# Altium integrated library TI Power Management Special Function.IntLib: 97 symbols (part 7 of 7)
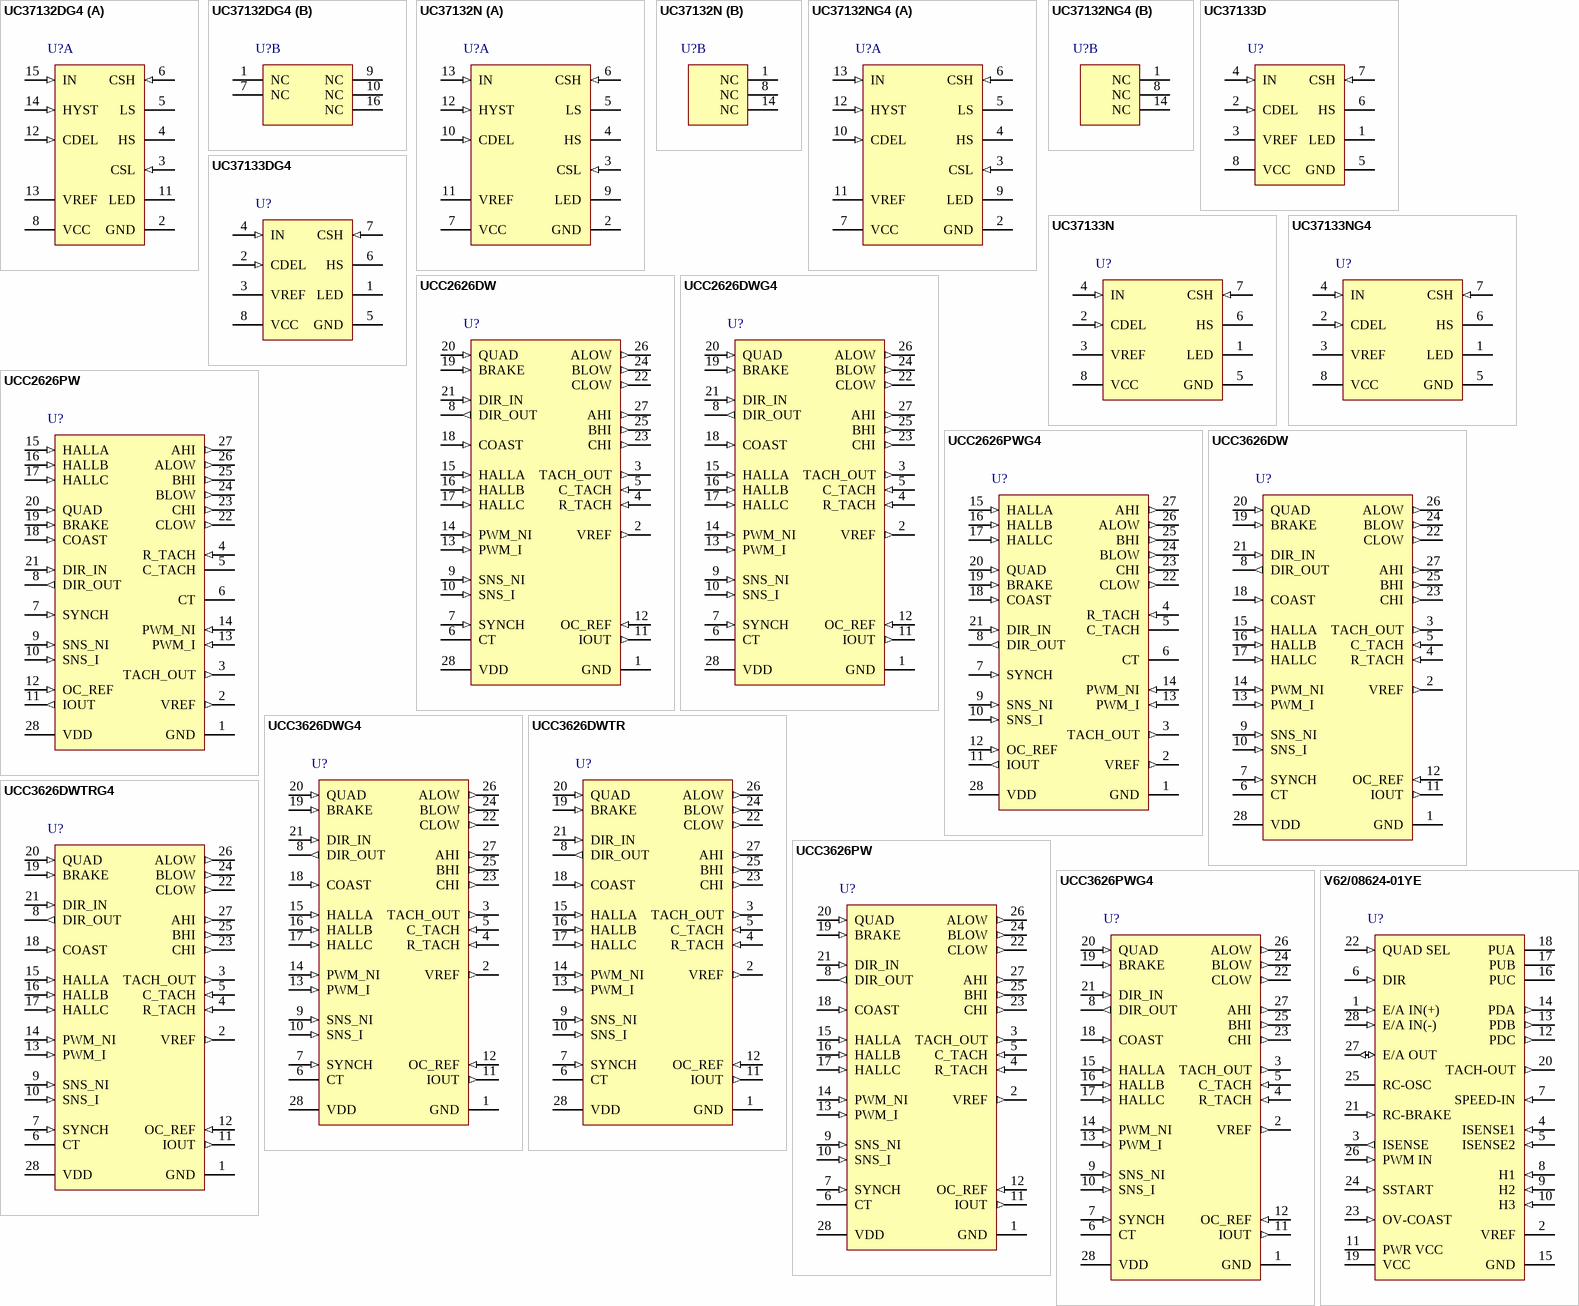
[diagram p9: symbols UC37132DG4 to V62/08624-01YE]

## UCC3626DWTR
designator U?
Brushless DC Motor Controller, 14.5 V Operating Supply, 0 to 70 degC, 28-pin SOIC (DW), Green (RoHS & no Sb/Br); Manufacturer: Texas Instruments; PartNumber: UCC3626DWTR; Brushless DC Motor Control: TRUE; Operating Supply Current(mA): 3; Operating Supply(Max)(V): 14.5; Operating Supply(Min)(V): 11; Peak Output Current(A): 0.1; SubFamily: Motion/Motor Control; DatasheetVersion: SLUS318B; PackageVersion: revG, Jan-2011; PackageReference: DW28; PackageDescription: 28-Pin Plastic Small Outline Integrated Circuit, 17.9 x 7.5 mm, Pitch 1.27 mm Pitch; Supplier 1: Digi-Key; Supplier Part Number 1: UCC3626DWTR-ND; Supplier 2: Newark; Supplier Part Number 2: 77C2308; Supplier 3: Mouser; Supplier Part Number 3: 595-UCC3626DWTR; Current-Limited: TRUE; Diff Curr Sense Amp: TRUE; Eco-Plan: Green (RoHS & no Sb/Br); Switching Control: TRUE; Tachometer: TRUE; Mounting Technology: Surface Mount; Code_JEDEC: MS-013-AE; ComponentLink1Description: Datasheet; ComponentLink1URL: http://www.ti.com/general/docs/lit/getliterature.tsp?genericPartNumber=UCC3626&fileType=pdf
footprint DW28_N (SOIC, 28-Leads, Body 17.9x7.5mm, Pitch 1.27mm, IPC Medium Density)
footprint DW28_L (SOIC, 28-Leads, Body 17.9x7.5mm, Pitch 1.27mm, IPC High Density)
footprint DW28_M (SOIC, 28-Leads, Body 17.9x7.5mm, Pitch 1.27mm, IPC Low Density)
pins: 1 GND (power) "GND is the reference ground for all functions of the part. Bypass and timing capacitors should be terminated as close as possible to this point.", 2 VREF (out) "VREF is a 5-V, 2% trimmed reference output with 5 mA of maximum available output current. This pin should be bypassed to ground with a ceramic capacitor with a value of at least 0.1 µF.", 3 TACH_OUT (out) "TACH_OUT is the output of a monostable triggered by a change in the commutation state, thus providing a variable duty cycle, frequency output. The on time of the monostable is set by the timing capacitor connected to C_TACH. (See Datasheet)", 4 R_TACH (in) "A resistor connected between R_TACH and ground programs the current for both the oscillator and tachometer.", 5 C_TACH (in) "A timing capacitor is connected between this pin and ground to set the width of the TACH_OUT pulse. The capacitor is charged with a current set by the resistor on pin R_TACH .", 6 CT "This pin is used in conjunction with the R_TACH pin to set the frequency of the oscillator. A timing capacitor is normally connected between this point and ground and is alternately charged and discharged between 2.5 V and 7.(See Datasheet)", 7 SYNCH (in) "The SYNCH input is used to synchronize the PWM oscillator with an external digital clock. When using the SYNCH feature, a resistor equal to R_TACH must be placed in parallel with CT. When not using the SYNCH feature, SYNCH (See Datasheet)", 8 DIR_OUT (out) "DIR_OUT represents the actual direction of the rotor as decoded from the HALLA, HALLB, and HALLC inputs. For any valid combination of HALLA, HALLB, and HALLC inputs there are two valid transitions; one of which translates to (See Datasheet)", 9 SNS_NI (in) "These inputs are the noninverting and inverting inputs to the current sense amplifier, respectively. The integrated amplifier is configured for a gain of five. An absolute value function is also incorporated into the output (See Datasheet)", 10 SNS_I (in) "These inputs are the noninverting and inverting inputs to the current sense amplifier, respectively. The integrated amplifier is configured for a gain of five. An absolute value function is also incorporated into the output (See Datasheet)", 11 IOUT (out) "IOUT represents the output of the current sense and absolute value amplifiers. The output signal appearing is a representation of the following expression: This output can be used to close a current control loop as well as (See Datasheet)", 12 OC_REF (in) "OC_REF is an analog input which sets the trip voltage of the overcurrent comparator. The sense input of the comparator is internally connected to the output of the current sense amplifier and absolute value circuit.", 13 PWM_I (in) "PWM_I is the inverting input to the PWM comparator.", 14 PWM_NI (in) "PWM_NI is the noninverting input to the PWM comparator.", 15 HALLA (in) "These three inputs are designed to accept rotor position information positioned 120degrees apart. For specific decode information reference Table I. These inputs should be externally pulled up to VREF or another appropriate (See Datasheet)", 16 HALLB (in) "These three inputs are designed to accept rotor position information positioned 120degrees apart. For specific decode information reference Table I. These inputs should be externally pulled up to VREF or another appropriate (See Datasheet)", 17 HALLC (in) "These three inputs are designed to accept rotor position information positioned 120degrees apart. For specific decode information reference Table I. These inputs should be externally pulled up to VREF or another appropriate (See Datasheet)", 18 COAST (in) "The COAST input consists of a hysteretic comparator which disables the outputs. The input is useful in implementing an overvoltage bus clamp in four-quadrant applications. The outputs are disabled when the input is above 1.(See Datasheet)", 19 BRAKE (in) "BRAKE is a digital input which causes the device to enter brake mode. In brake mode all three high-side outputs (AHI, BHI & CHI) are turned off, while all three lowside outputs (ALOW ,BLOW, CLOW) are turned on. During brake (See Datasheet)", 20 QUAD (in) "The QUAD input selects between two-quadrant operation (QUAD = 0) and four-quadrant operation (QUAD = 1) . When in two-quadrant mode, only the low-side devices are effected by the output of the PWM comparator. In (See Datasheet)", 21 DIR_IN (in) "DIR_IN is a digital input which determines the order in which the HALLA, HALLB, and HALLC inputs are decoded. For specific decode information reference Table I.", 22 CLOW (out) "Digital outputs used to control the low-side switches in a three-phase inverter. For specific decoding information reference Table I.", 23 CHI (out) "Digital outputs used to control the high-side switches in a three-phase inverter. For specific decoding information reference Table I.", 24 BLOW (out) "Digital outputs used to control the low-side switches in a three-phase inverter. For specific decoding information reference Table I.", 25 BHI (out) "Digital outputs used to control the high-side switches in a three-phase inverter. For specific decoding information reference Table I.", 26 ALOW (out) "Digital outputs used to control the low-side switches in a three-phase inverter. For specific decoding information reference Table I.", 27 AHI (out) "Digital outputs used to control the high-side switches in a three-phase inverter. For specific decoding information reference Table I.", 28 VDD (power) "VDD is the input supply connection for this device. Undervoltage lockout keeps the outputs off for inputs below 10.5 V. The input should be bypassed with a 0.1-µF ceramic capacitor, minimum."

## UCC3626DWTRG4
designator U?
Brushless DC Motor Controller, 14.5 V Operating Supply, 0 to 70 degC, 28-pin SOIC (DW), Green (RoHS & no Sb/Br); Manufacturer: Texas Instruments; PartNumber: UCC3626DWTRG4; Brushless DC Motor Control: TRUE; Operating Supply Current(mA): 3; Operating Supply(Max)(V): 14.5; Operating Supply(Min)(V): 11; Peak Output Current(A): 0.1; SubFamily: Motion/Motor Control; DatasheetVersion: SLUS318B; PackageVersion: revG, Jan-2011; PackageReference: DW28; PackageDescription: 28-Pin Plastic Small Outline Integrated Circuit, 17.9 x 7.5 mm, Pitch 1.27 mm Pitch; Supplier 1: Digi-Key; Supplier Part Number 1: UCC3626DWTRG4-ND; Supplier 2: Newark; Supplier Part Number 2: 54K2102; Supplier 3: Mouser; Supplier Part Number 3: 595-UCC3626DWTRG4; Current-Limited: TRUE; Diff Curr Sense Amp: TRUE; Eco-Plan: Green (RoHS & no Sb/Br); Switching Control: TRUE; Tachometer: TRUE; Mounting Technology: Surface Mount; Code_JEDEC: MS-013-AE; ComponentLink1Description: Datasheet; ComponentLink1URL: http://www.ti.com/general/docs/lit/getliterature.tsp?genericPartNumber=UCC3626&fileType=pdf
footprint DW28_N (SOIC, 28-Leads, Body 17.9x7.5mm, Pitch 1.27mm, IPC Medium Density)
footprint DW28_L (SOIC, 28-Leads, Body 17.9x7.5mm, Pitch 1.27mm, IPC High Density)
footprint DW28_M (SOIC, 28-Leads, Body 17.9x7.5mm, Pitch 1.27mm, IPC Low Density)
pins: 1 GND (power) "GND is the reference ground for all functions of the part. Bypass and timing capacitors should be terminated as close as possible to this point.", 2 VREF (out) "VREF is a 5-V, 2% trimmed reference output with 5 mA of maximum available output current. This pin should be bypassed to ground with a ceramic capacitor with a value of at least 0.1 µF.", 3 TACH_OUT (out) "TACH_OUT is the output of a monostable triggered by a change in the commutation state, thus providing a variable duty cycle, frequency output. The on time of the monostable is set by the timing capacitor connected to C_TACH. (See Datasheet)", 4 R_TACH (in) "A resistor connected between R_TACH and ground programs the current for both the oscillator and tachometer.", 5 C_TACH (in) "A timing capacitor is connected between this pin and ground to set the width of the TACH_OUT pulse. The capacitor is charged with a current set by the resistor on pin R_TACH .", 6 CT "This pin is used in conjunction with the R_TACH pin to set the frequency of the oscillator. A timing capacitor is normally connected between this point and ground and is alternately charged and discharged between 2.5 V and 7.(See Datasheet)", 7 SYNCH (in) "The SYNCH input is used to synchronize the PWM oscillator with an external digital clock. When using the SYNCH feature, a resistor equal to R_TACH must be placed in parallel with CT. When not using the SYNCH feature, SYNCH (See Datasheet)", 8 DIR_OUT (out) "DIR_OUT represents the actual direction of the rotor as decoded from the HALLA, HALLB, and HALLC inputs. For any valid combination of HALLA, HALLB, and HALLC inputs there are two valid transitions; one of which translates to (See Datasheet)", 9 SNS_NI (in) "These inputs are the noninverting and inverting inputs to the current sense amplifier, respectively. The integrated amplifier is configured for a gain of five. An absolute value function is also incorporated into the output (See Datasheet)", 10 SNS_I (in) "These inputs are the noninverting and inverting inputs to the current sense amplifier, respectively. The integrated amplifier is configured for a gain of five. An absolute value function is also incorporated into the output (See Datasheet)", 11 IOUT (out) "IOUT represents the output of the current sense and absolute value amplifiers. The output signal appearing is a representation of the following expression: This output can be used to close a current control loop as well as (See Datasheet)", 12 OC_REF (in) "OC_REF is an analog input which sets the trip voltage of the overcurrent comparator. The sense input of the comparator is internally connected to the output of the current sense amplifier and absolute value circuit.", 13 PWM_I (in) "PWM_I is the inverting input to the PWM comparator.", 14 PWM_NI (in) "PWM_NI is the noninverting input to the PWM comparator.", 15 HALLA (in) "These three inputs are designed to accept rotor position information positioned 120degrees apart. For specific decode information reference Table I. These inputs should be externally pulled up to VREF or another appropriate (See Datasheet)", 16 HALLB (in) "These three inputs are designed to accept rotor position information positioned 120degrees apart. For specific decode information reference Table I. These inputs should be externally pulled up to VREF or another appropriate (See Datasheet)", 17 HALLC (in) "These three inputs are designed to accept rotor position information positioned 120degrees apart. For specific decode information reference Table I. These inputs should be externally pulled up to VREF or another appropriate (See Datasheet)", 18 COAST (in) "The COAST input consists of a hysteretic comparator which disables the outputs. The input is useful in implementing an overvoltage bus clamp in four-quadrant applications. The outputs are disabled when the input is above 1.(See Datasheet)", 19 BRAKE (in) "BRAKE is a digital input which causes the device to enter brake mode. In brake mode all three high-side outputs (AHI, BHI & CHI) are turned off, while all three lowside outputs (ALOW ,BLOW, CLOW) are turned on. During brake (See Datasheet)", 20 QUAD (in) "The QUAD input selects between two-quadrant operation (QUAD = 0) and four-quadrant operation (QUAD = 1) . When in two-quadrant mode, only the low-side devices are effected by the output of the PWM comparator. In (See Datasheet)", 21 DIR_IN (in) "DIR_IN is a digital input which determines the order in which the HALLA, HALLB, and HALLC inputs are decoded. For specific decode information reference Table I.", 22 CLOW (out) "Digital outputs used to control the low-side switches in a three-phase inverter. For specific decoding information reference Table I.", 23 CHI (out) "Digital outputs used to control the high-side switches in a three-phase inverter. For specific decoding information reference Table I.", 24 BLOW (out) "Digital outputs used to control the low-side switches in a three-phase inverter. For specific decoding information reference Table I.", 25 BHI (out) "Digital outputs used to control the high-side switches in a three-phase inverter. For specific decoding information reference Table I.", 26 ALOW (out) "Digital outputs used to control the low-side switches in a three-phase inverter. For specific decoding information reference Table I.", 27 AHI (out) "Digital outputs used to control the high-side switches in a three-phase inverter. For specific decoding information reference Table I.", 28 VDD (power) "VDD is the input supply connection for this device. Undervoltage lockout keeps the outputs off for inputs below 10.5 V. The input should be bypassed with a 0.1-µF ceramic capacitor, minimum."

## UCC3626PW
designator U?
Brushless DC Motor Controller, 14.5 V Operating Supply, 0 to 70 degC, 28-pin TSSOP (PW), Green (RoHS & no Sb/Br); Manufacturer: Texas Instruments; PartNumber: UCC3626PW; Brushless DC Motor Control: TRUE; Operating Supply Current(mA): 3; Operating Supply(Max)(V): 14.5; Operating Supply(Min)(V): 11; Peak Output Current(A): 0.1; SubFamily: Motion/Motor Control; DatasheetVersion: SLUS318B; PackageVersion: revG, Feb-2011; PackageReference: PW28; PackageDescription: 28-Pin Plastic Thin Small Outline Package 9.7 x 4.4 mm Body ,0.65 mm Pitch; Supplier 1: Digi-Key; Supplier Part Number 1: 296-11453-5-ND; Supplier 2: Newark; Supplier Part Number 2: 77C2310; Supplier 3: Mouser; Supplier Part Number 3: 595-UCC3626PW; Current-Limited: TRUE; Diff Curr Sense Amp: TRUE; Eco-Plan: Green (RoHS & no Sb/Br); Switching Control: TRUE; Tachometer: TRUE; Mounting Technology: Surface Mount; Code_JEDEC: MO-153; ComponentLink1Description: Datasheet; ComponentLink1URL: http://www.ti.com/general/docs/lit/getliterature.tsp?genericPartNumber=UCC3626&fileType=pdf
footprint PW28_N (TSOP, 28-Leads, Body 9.7x4.4mm, Pitch 0.65mm, IPC Medium Density)
footprint PW28_L (TSOP, 28-Leads, Body 9.7x4.4mm, Pitch 0.65mm, IPC High Density)
footprint PW28_M (TSOP, 28-Leads, Body 9.7x4.4mm, Pitch 0.65mm, IPC Low Density)
pins: 1 GND (power) "GND is the reference ground for all functions of the part. Bypass and timing capacitors should be terminated as close as possible to this point.", 2 VREF (out) "VREF is a 5-V, 2% trimmed reference output with 5 mA of maximum available output current. This pin should be bypassed to ground with a ceramic capacitor with a value of at least 0.1 uF.", 3 TACH_OUT (out) "TACH_OUT is the output of a monostable triggered by a change in the commutation state, thus providing a variable duty cycle, frequency output. The on time of the monostable is set by the timing capacitor connected to C_TACH. (See Datasheet)", 4 R_TACH (in) "A resistor connected between R_TACH and ground programs the current for both the oscillator and tachometer.", 5 C_TACH (in) "A timing capacitor is connected between this pin and ground to set the width of the TACH_OUT pulse. The capacitor is charged with a current set by the resistor on pin R_TACH .", 6 CT "This pin is used in conjunction with the R_TACH pin to set the frequency of the oscillator. A timing capacitor is normally connected between this point and ground and is alternately charged and discharged between 2.5 V and 7.(See Datasheet)", 7 SYNCH (in) "The SYNCH input is used to synchronize the PWM oscillator with an external digital clock. When using the SYNCH feature, a resistor equal to R_TACH must be placed in parallel with CT. When not using the SYNCH feature, SYNCH (See Datasheet)", 8 DIR_OUT (out) "DIR_OUT represents the actual direction of the rotor as decoded from the HALLA, HALLB, and HALLC inputs. For any valid combination of HALLA, HALLB, and HALLC inputs there are two valid transitions; one of which translates to (See Datasheet)", 9 SNS_NI (in) "These inputs are the noninverting and inverting inputs to the current sense amplifier, respectively. The integrated amplifier is configured for a gain of five. An absolute value function is also incorporated into the output (See Datasheet)", 10 SNS_I (in) "These inputs are the noninverting and inverting inputs to the current sense amplifier, respectively. The integrated amplifier is configured for a gain of five. An absolute value function is also incorporated into the output (See Datasheet)", 11 IOUT (out) "IOUT represents the output of the current sense and absolute value amplifiers. The output signal appearing is a representation of the following expression: IOUT= ABS(ISNS_I-ISNS_NI)x5 This output can be used to close a (See Datasheet)", 12 OC_REF (in) "OC_REF is an analog input which sets the trip voltage of the overcurrent comparator. The sense input of the comparator is internally connected to the output of the current sense amplifier and absolute value circuit.", 13 PWM_I (in) "PWM_I is the inverting input to the PWM comparator.", 14 PWM_NI (in) "PWM_NI is the noninverting input to the PWM comparator.", 15 HALLA (in) "These three inputs are designed to accept rotor position information positioned 120 degC apart. For specific decode information reference Table I. These inputs should be externally pulled up to VREF or another appropriate (See Datasheet)", 16 HALLB (in) "These three inputs are designed to accept rotor position information positioned 120 degC apart. For specific decode information reference Table I. These inputs should be externally pulled up to VREF or another appropriate (See Datasheet)", 17 HALLC (in) "These three inputs are designed to accept rotor position information positioned 120 degC apart. For specific decode information reference Table I. These inputs should be externally pulled up to VREF or another appropriate (See Datasheet)", 18 COAST (in) "The COAST input consists of a hysteretic comparator which disables the outputs. The input is useful in implementing an overvoltage bus clamp in four-quadrant applications. The outputs are disabled when the input is above 1.(See Datasheet)", 19 BRAKE (in) "BRAKE is a digital input which causes the device to enter brake mode. In brake mode all three highside outputs (AHI, BHI & CHI) are turned off, while all three lowside outputs (ALOW, BLOW, CLOW) are turned on. During brake (See Datasheet)", 20 QUAD (in) "The QUAD input selects between two-quadrant operation (QUAD = 0) and four-quadrant operation (QUAD = 1) . When in two-quadrant mode, only the low-side devices are effected by the output of the PWM comparator. In (See Datasheet)", 21 DIR_IN (in) "DIR_IN is a digital input which determines the order in which the HALLA, HALLB, and HALLC inputs are decoded. For specific decode information reference Table I.", 22 CLOW (out) "Digital outputs used to control the low-side switches in a three-phase inverter. For specific decoding information reference Table I.", 23 CHI (out) "Digital outputs used to control the high-side switches in a three-phase inverter. For specific decoding information reference Table I.", 24 BLOW (out) "Digital outputs used to control the low-side switches in a three-phase inverter. For specific decoding information reference Table I.", 25 BHI (out) "Digital outputs used to control the high-side switches in a three-phase inverter. For specific decoding information reference Table I.", 26 ALOW (out) "Digital outputs used to control the low-side switches in a three-phase inverter. For specific decoding information reference Table I.", 27 AHI (out) "Digital outputs used to control the high-side switches in a three-phase inverter. For specific decoding information reference Table I.", 28 VDD (power) "VDD is the input supply connection for this device. Undervoltage lockout keeps the outputs off for inputs below 10.5 V. The input should be bypassed with a 0.1-uF ceramic capacitor, minimum."

## UCC3626PWG4
designator U?
Brushless DC Motor Controller, 14.5 V Operating Supply, 0 to 70 degC, 28-pin TSSOP (PW), Green (RoHS & no Sb/Br); Manufacturer: Texas Instruments; PartNumber: UCC3626PWG4; Brushless DC Motor Control: TRUE; Operating Supply Current(mA): 3; Operating Supply(Max)(V): 14.5; Operating Supply(Min)(V): 11; Peak Output Current(A): 0.1; SubFamily: Motion/Motor Control; DatasheetVersion: SLUS318B; PackageVersion: revG, Feb-2011; PackageReference: PW28; PackageDescription: 28-Pin Plastic Thin Small Outline Package 9.7 x 4.4 mm Body ,0.65 mm Pitch; Supplier 1: Digi-Key; Supplier Part Number 1: UCC3626PWG4-ND; Supplier 2: Newark; Supplier Part Number 2: 73K9677; Supplier 3: Mouser; Supplier Part Number 3: 595-UCC3626PWG4; Current-Limited: TRUE; Diff Curr Sense Amp: TRUE; Eco-Plan: Green (RoHS & no Sb/Br); Switching Control: TRUE; Tachometer: TRUE; Mounting Technology: Surface Mount; Code_JEDEC: MO-153; ComponentLink1Description: Datasheet; ComponentLink1URL: http://www.ti.com/general/docs/lit/getliterature.tsp?genericPartNumber=UCC3626&fileType=pdf
footprint PW28_N (TSOP, 28-Leads, Body 9.7x4.4mm, Pitch 0.65mm, IPC Medium Density)
footprint PW28_L (TSOP, 28-Leads, Body 9.7x4.4mm, Pitch 0.65mm, IPC High Density)
footprint PW28_M (TSOP, 28-Leads, Body 9.7x4.4mm, Pitch 0.65mm, IPC Low Density)
pins: 1 GND (power) "GND is the reference ground for all functions of the part. Bypass and timing capacitors should be terminated as close as possible to this point.", 2 VREF (out) "VREF is a 5-V, 2% trimmed reference output with 5 mA of maximum available output current. This pin should be bypassed to ground with a ceramic capacitor with a value of at least 0.1 uF.", 3 TACH_OUT (out) "TACH_OUT is the output of a monostable triggered by a change in the commutation state, thus providing a variable duty cycle, frequency output. The on time of the monostable is set by the timing capacitor connected to C_TACH. (See Datasheet)", 4 R_TACH (in) "A resistor connected between R_TACH and ground programs the current for both the oscillator and tachometer.", 5 C_TACH (in) "A timing capacitor is connected between this pin and ground to set the width of the TACH_OUT pulse. The capacitor is charged with a current set by the resistor on pin R_TACH .", 6 CT "This pin is used in conjunction with the R_TACH pin to set the frequency of the oscillator. A timing capacitor is normally connected between this point and ground and is alternately charged and discharged between 2.5 V and 7.(See Datasheet)", 7 SYNCH (in) "The SYNCH input is used to synchronize the PWM oscillator with an external digital clock. When using the SYNCH feature, a resistor equal to R_TACH must be placed in parallel with CT. When not using the SYNCH feature, SYNCH (See Datasheet)", 8 DIR_OUT (out) "DIR_OUT represents the actual direction of the rotor as decoded from the HALLA, HALLB, and HALLC inputs. For any valid combination of HALLA, HALLB, and HALLC inputs there are two valid transitions; one of which translates to (See Datasheet)", 9 SNS_NI (in) "These inputs are the noninverting and inverting inputs to the current sense amplifier, respectively. The integrated amplifier is configured for a gain of five. An absolute value function is also incorporated into the output (See Datasheet)", 10 SNS_I (in) "These inputs are the noninverting and inverting inputs to the current sense amplifier, respectively. The integrated amplifier is configured for a gain of five. An absolute value function is also incorporated into the output (See Datasheet)", 11 IOUT (out) "IOUT represents the output of the current sense and absolute value amplifiers. The output signal appearing is a representation of the following expression: IOUT= ABS(ISNS_I-ISNS_NI)x5 This output can be used to close a (See Datasheet)", 12 OC_REF (in) "OC_REF is an analog input which sets the trip voltage of the overcurrent comparator. The sense input of the comparator is internally connected to the output of the current sense amplifier and absolute value circuit.", 13 PWM_I (in) "PWM_I is the inverting input to the PWM comparator.", 14 PWM_NI (in) "PWM_NI is the noninverting input to the PWM comparator.", 15 HALLA (in) "These three inputs are designed to accept rotor position information positioned 120 degC apart. For specific decode information reference Table I. These inputs should be externally pulled up to VREF or another appropriate (See Datasheet)", 16 HALLB (in) "These three inputs are designed to accept rotor position information positioned 120 degC apart. For specific decode information reference Table I. These inputs should be externally pulled up to VREF or another appropriate (See Datasheet)", 17 HALLC (in) "These three inputs are designed to accept rotor position information positioned 120 degC apart. For specific decode information reference Table I. These inputs should be externally pulled up to VREF or another appropriate (See Datasheet)", 18 COAST (in) "The COAST input consists of a hysteretic comparator which disables the outputs. The input is useful in implementing an overvoltage bus clamp in four-quadrant applications. The outputs are disabled when the input is above 1.(See Datasheet)", 19 BRAKE (in) "BRAKE is a digital input which causes the device to enter brake mode. In brake mode all three highside outputs (AHI, BHI & CHI) are turned off, while all three lowside outputs (ALOW, BLOW, CLOW) are turned on. During brake (See Datasheet)", 20 QUAD (in) "The QUAD input selects between two-quadrant operation (QUAD = 0) and four-quadrant operation (QUAD = 1) . When in two-quadrant mode, only the low-side devices are effected by the output of the PWM comparator. In (See Datasheet)", 21 DIR_IN (in) "DIR_IN is a digital input which determines the order in which the HALLA, HALLB, and HALLC inputs are decoded. For specific decode information reference Table I.", 22 CLOW (out) "Digital outputs used to control the low-side switches in a three-phase inverter. For specific decoding information reference Table I.", 23 CHI (out) "Digital outputs used to control the high-side switches in a three-phase inverter. For specific decoding information reference Table I.", 24 BLOW (out) "Digital outputs used to control the low-side switches in a three-phase inverter. For specific decoding information reference Table I.", 25 BHI (out) "Digital outputs used to control the high-side switches in a three-phase inverter. For specific decoding information reference Table I.", 26 ALOW (out) "Digital outputs used to control the low-side switches in a three-phase inverter. For specific decoding information reference Table I.", 27 AHI (out) "Digital outputs used to control the high-side switches in a three-phase inverter. For specific decoding information reference Table I.", 28 VDD (power) "VDD is the input supply connection for this device. Undervoltage lockout keeps the outputs off for inputs below 10.5 V. The input should be bypassed with a 0.1-uF ceramic capacitor, minimum."

## V62/08624-01YE
designator U?
Enhanced Product Brushless DC Motor Controller, -55 to 125 degC, 28-pin SOIC (DW), Green (RoHS & no Sb/Br); Manufacturer: Texas Instruments; PartNumber: V62/08624-01YE; SubFamily: Motion/Motor Control; DatasheetVersion: SLUS802; PackageVersion: revG, Jan-2011; PackageReference: DW28; PackageDescription: 28-Pin Plastic Small Outline Integrated Circuit, 17.9 x 7.5 mm, Pitch 1.27 mm Pitch; Supplier 1: Newark; Supplier Part Number 1: 79R8688; Supplier 2: Mouser; Supplier Part Number 2: 595-V62/08624-01YE; Eco-Plan: Green (RoHS & no Sb/Br); Mounting Technology: Surface Mount; Code_JEDEC: MS-013-AE; ComponentLink1Description: Datasheet; ComponentLink1URL: http://www.ti.com/general/docs/lit/getliterature.tsp?genericPartNumber=UC2625-EP&fileType=pdf
footprint DW28_N (SOIC, 28-Leads, Body 17.9x7.5mm, Pitch 1.27mm, IPC Medium Density)
footprint DW28_L (SOIC, 28-Leads, Body 17.9x7.5mm, Pitch 1.27mm, IPC High Density)
footprint DW28_M (SOIC, 28-Leads, Body 17.9x7.5mm, Pitch 1.27mm, IPC Low Density)
pins: 1 E/A IN(+) (in) "E/A IN(+) and E/A IN(-) are not internally committed to allow for a wide variety of uses. They can be connected to the ISENSE, to TACH-OUT through a filter, to an external command voltage, to a D/A converter for computer (See Datasheet)", 2 VREF (power) "This pin provides regulated 5 V for driving Hall-effect devices and speed control circuitry. VREF reachs 5 V before VCC enables, ensuring that Hall-effect devices  powered from VREF becomes active before the UC3625 drives (See Datasheet)", 3 ISENSE (out) "The current sense amplifier has a fixed gain of approximately two. It also has a built-in level shift of approximately 2.5 V. The signal appearing on ISENSE is: ISENSE = 2.5 V + (2 x ABS ( ISENSE1 - ISENSE2) ) ISENSE1 and (See Datasheet)", 4 ISENSE1 (in) "The current sense amplifier has a fixed gain of approximately two. It also has a built-in level shift of approximately 2.5 V. The signal appearing on ISENSE is: ISENSE = 2.5 V + (2 x ABS ( ISENSE1 - ISENSE2) ) ISENSE1 and (See Datasheet)", 5 ISENSE2 (in) "The current sense amplifier has a fixed gain of approximately two. It also has a built-in level shift of approximately 2.5 V. The signal appearing on ISENSE is: ISENSE = 2.5 V + (2 x ABS ( ISENSE1 - ISENSE2) ) ISENSE1 and (See Datasheet)", 6 DIR (in) "The position decoder logic translates the Hall signals and the DIR signal to the correct driver signals (PUs and PDs). To prevent output stage damage,the signal on DIR is first loaded into a direction latch, then shifted (See Datasheet)", 7 SPEED-IN (in) "The position decoder logic translates the Hall signals and the DIR signal to the correct driver signals (PUs and PDs). To prevent output stage damage,the signal on DIR is first loaded into a direction latch, then shifted (See Datasheet)", 8 H1 (in) "The three shaft position sensor inputs consist of hysteresis comparators with input pull-up resistors. Logic thresholds meet TTL specifications and can be driven by 5-V CMOS, 12-V CMOS, NMOS, or open-collectors. Connect (See Datasheet)", 9 H2 (in) "The three shaft position sensor inputs consist of hysteresis comparators with input pull-up resistors. Logic thresholds meet TTL specifications and can be driven by 5-V CMOS, 12-V CMOS, NMOS, or open-collectors. Connect (See Datasheet)", 10 H3 (in) "The three shaft position sensor inputs consist of hysteresis comparators with input pull-up resistors. Logic thresholds meet TTL specifications and can be driven by 5-V CMOS, 12-V CMOS, NMOS, or open-collectors. Connect (See Datasheet)", 11 PWR VCC (power) "This supply pin carries the current sourced by the PD outputs. When connecting PD outputs directly to the bases of power Darlingtons, the PWR VCC pin can be current limited with a resistor. Darlington outputs can also be (See Datasheet)", 12 PDC (out) "These outputs can drive the gates of N-channel power MOSFETs directly or they can drive the bases of power Darlingtons if some form of current limiting is used. They are meant to drive low-side power devices in high-current (See Datasheet)", 13 PDB (out) "These outputs can drive the gates of N-channel power MOSFETs directly or they can drive the bases of power Darlingtons if some form of current limiting is used. They are meant to drive low-side power devices in high-current (See Datasheet)", 14 PDA (out) "These outputs can drive the gates of N-channel power MOSFETs directly or they can drive the bases of power Darlingtons if some form of current limiting is used. They are meant to drive low-side power devices in high-current (See Datasheet)", 15 GND (power) "All thresholds and outputs are referred to the GND pin except for the PD and PU outputs.", 16 PUC (oc) "These outputs are open-collector, high-voltage drivers that are meant to drive high-side power devices in high-current output stages.These are active low outputs, meaning that these outputs pull low to command a high-side (See Datasheet)", 17 PUB (oc) "These outputs are open-collector, high-voltage drivers that are meant to drive high-side power devices in high-current output stages.These are active low outputs, meaning that these outputs pull low to command a high-side (See Datasheet)", 18 PUA (oc) "These outputs are open-collector, high-voltage drivers that are meant to drive high-side power devices in high-current output stages.These are active low outputs, meaning that these outputs pull low to command a high-side (See Datasheet)", 19 VCC (power) "This device operates with supplies between 10 V and 18 V. Under-voltage lockout keeps all outputs off below 7.5 V, insuring that the output transistors never turn on until full drive capability is available. Bypass VCC to (See Datasheet)", 20 TACH-OUT (out) "Any change in the H1, H2, or H3 inputs loads data from these inputs into the position sensor latches. At the same time data is loaded, a fixed-width 5-V pulse is triggered on TACH-OUT. The average value of the voltage on (See Datasheet)", 21 RC-BRAKE (in) "Each time the TACH-OUT pulses, the capacitor tied to RC-BRAKE discharges from approximately 3.33 V down to 1.67 V through a resistor. The tachometer pulse width is approximately T = 0.67 RT CT, where RT and CT are a resistor (See Datasheet)", 22 QUAD SEL (in) "The device can chop power devices in either of two modes, referred to as "two-quadrant" (Quad Sellow) and "four quadrant" (Quad Sel high). When two-quadrant chopping, the pull-down power devices are chopped by the output of (See Datasheet)", 23 OV-COAST (in) "This input can be used as an over-voltage shut-down input, as a coast input, or both. This input can be driven by TTL, 5-V CMOS, or 12-V CMOS.", 24 SSTART (in) "Any time that VCC drops below threshold or the sensed current exceeds the over-current threshold, the soft-start latch is set. When set, it turns on a transistor that pulls down on SSTART. Normally, a capacitor is connected (See Datasheet)", 25 RC-OSC "The UC3625 can regulate motor current using fixed-frequency pulse width modulation (PWM). The RC-OSC pin sets oscillator frequency by means of timing resistor ROSC from the RC-OSC pin to VREF and capacitor COSC from RC-OSC (See Datasheet)", 26 PWM IN (in) "E/A IN(+) and E/A IN(-) are not internally committed to allow for a wide variety of uses. They can be connected to the ISENSE, to TACH-OUT through a filter, to an external command voltage, to a D/A converter for computer (See Datasheet)", 27 E/A OUT (io) "E/A IN(+) and E/A IN(-) are not internally committed to allow for a wide variety of uses. They can be connected to the ISENSE, to TACH-OUT through a filter, to an external command voltage, to a D/A converter for computer (See Datasheet)", 28 E/A IN(-) (in) "E/A IN(+) and E/A IN(-) are not internally committed to allow for a wide variety of uses. They can be connected to the ISENSE, to TACH-OUT through a filter, to an external command voltage, to a D/A converter for computer (See Datasheet)"